# EAGLE library part 74HCT166D (library NXP_By_element14_Batch_1)
8-bit parallel-in/serial-out shift register
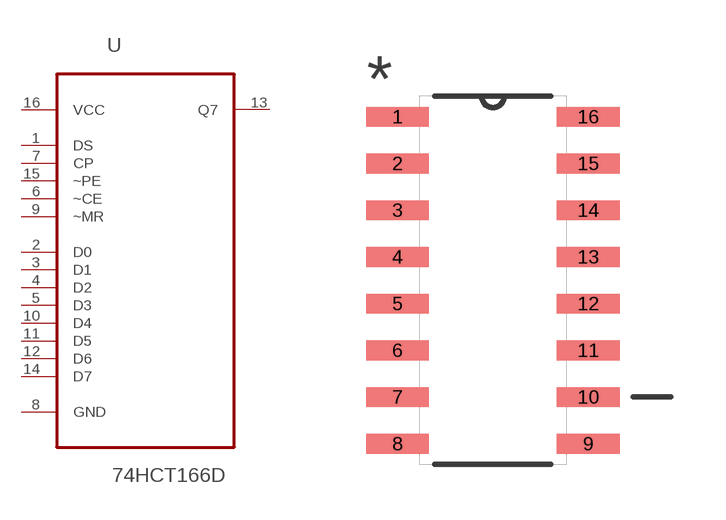
[diagram p184: symbol with the pads of SOIC127P600X175-16N; footprint SOIC127P600X175-16N]

Designator prefix U

## 74HCT166D (MPN: 74HCT166D; OC_FARNELL: 1631653; OC_NEWARK: 03P2749; PACKAGE: SOIC-16; SUPPLIER: NXP)  [SOIC127P600X175-16N]
1  DS  in
2  D0  in
3  D1  in
4  D2  in
5  D3  in
6  ~CE  in
7  CP  in
8  GND  pas
9  ~MR  in
10  D4  in
11  D5  in
12  D6  in
13  Q7  out
14  D7  in
15  ~PE  in
16  VCC  pwr

## Footprint SOIC127P600X175-16N (pad centres in mm)
smd 1.702 x 0.533: 1 -2.591,4.445; 2 -2.591,3.175; 3 -2.591,1.905; 4 -2.591,0.635; 5 -2.591,-0.635; 6 -2.591,-1.905; 7 -2.591,-3.175; 8 -2.591,-4.445; 9 2.591,-4.445; 10 2.591,-3.175; 11 2.591,-1.905; 12 2.591,-0.635; 13 2.591,0.635; 14 2.591,1.905; 15 2.591,3.175; 16 2.591,4.445